# Altium integrated library Capacitors.IntLib: 5 symbols
Pins are listed as number, name and electrical type; pins without a type are passive.

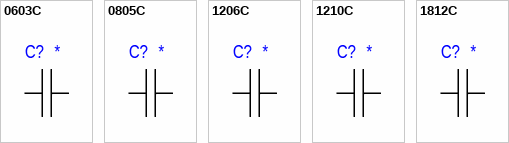
[diagram p0: symbols 0603C to 1812C]

## 0603C
designator C?
Manufacturer: *; Value: *
footprint 0603C
pins: 1 (power), 2 (power)

## 0805C
designator C?
Manufacturer: *; Value: *
footprint 0805C
pins: 1 (power), 2 (power)

## 1206C
designator C?
Manufacturer: *; Value: *
footprint 1206C
pins: 1 (power), 2 (power)

## 1210C
designator C?
Manufacturer: *; Value: *
footprint 1210C
pins: 1 (power), 2 (power)

## 1812C
designator C?
Manufacturer: *; Value: *
footprint 1812C
pins: 1 (power), 2 (power)